# Altium integrated library Buttons.IntLib: 2 symbols
Pins are listed as number, name and electrical type; pins without a type are passive.

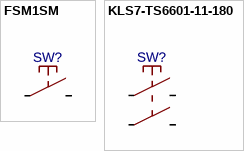
[diagram p0: symbols FSM1SM to KLS7-TS6601-11-180]

## FSM1SM
designator SW?
1437566-3 (FSMSM), Кнопка тактовая h=4.6 мм SMD SPST
footprint FSM1SM
pins: 0, 1

## KLS7-TS6601-11-180
designator SW?
(IT-1102K) Кнопка тактовая прямая 6х6х11мм
footprint KLS7-TS6601-11-180
pins: 0, 1, 2, 3